# Altium footprint library Header6.PcbLib: 1 footprints
Each footprint in its own frame and in the unit in brackets; x right, y up, seen from the top. Pads: shape width x height; smd on the part's side, far side on the other; paste and mask are expansions set on the pad; w line width, h text height; cw(c..) or ccw(c..) is an arc to the next point about the centre after c.
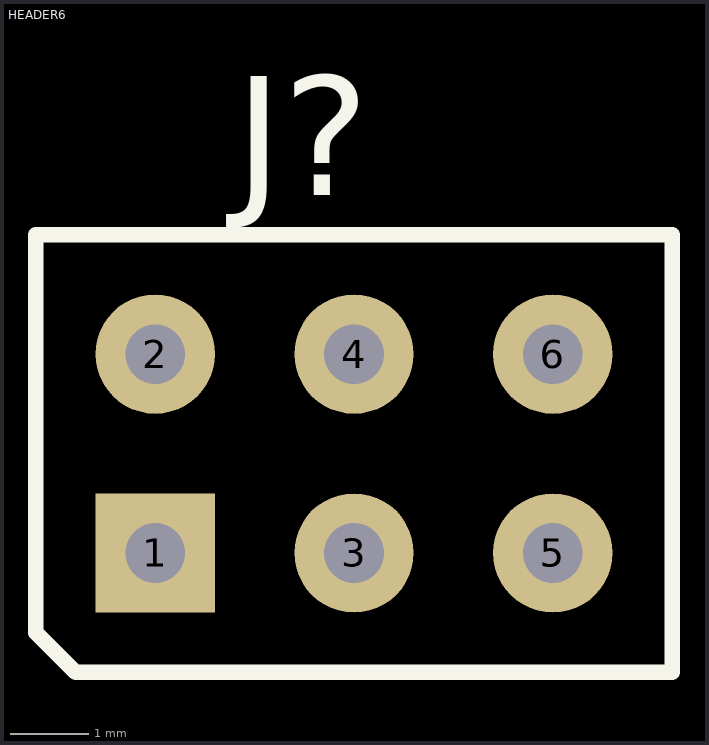
[diagram p0: the footprint, top view; thin cyan lines are the x and y axes]

## HEADER6 [mil]
pads (6):
  rect 60x60 hole 30: 1(200,500)
  round 60 hole 30: 2(200,600) 3(300,500) 4(300,600) 5(400,500) 6(400,600)
Top Overlay:
  lines w7.87: 140,460 140,660 460,660 460,440 160,440 140,460
  text "J?" at 240,680 h60